# EAGLE library part BSL307SP (library transistor-fet_edited)
OptiMOS(R)-P Small-Signal-Transistor P-Channel, Enhancement mode, Logic Level ID -5.5 A Source: http://www.infineon.com/upload/Document/BSL307SP_Rev%201.2.pdf
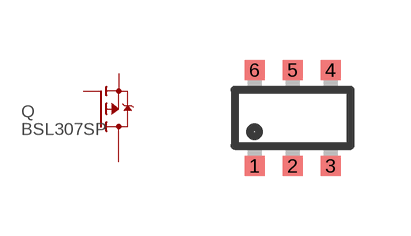
[diagram p6: symbol with the pads of SC74_INFINEON; footprint SC74_INFINEON]

Designator prefix Q

## BSL307SP  [SC74_INFINEON]
1  D  pas
2  D  pas
3  G  pas
4  S  pas
5  D  pas
6  D  pas

## Footprint SC74_INFINEON (pad centres in mm)
Small Outline Transistor; 6 leads Reflow soldering INFINEON, www.infineon.com/cmc_upload/0/000/010/257/eh_db_5b.pdf
smd 0.5 x 0.5: 1 -0.95,-1.2; 2 0,-1.2; 3 0.95,-1.2; 4 0.95,1.2; 5 0,1.2; 6 -0.95,1.2